# Altium schematic symbol library LM2596S-ADJ_TR.Schlib: 1 symbol
Pins are listed as number, name and electrical type; pins without a type are passive.

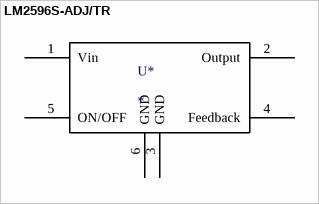
[diagram p0: symbol LM2596S-ADJ/TR]

## LM2596S-ADJ/TR
designator U*
ComponentLink1Description: LCSC - HGSEMI LM2596S-ADJ/TR; ComponentLink1URL: https://lcsc.com/product-detail/Others_HGSEMI-LM2596S-ADJ-TR_C194351.html
footprint TO-263-5
pins: 1 Vin, 2 Output, 3 GND, 4 Feedback, 5 ON/OFF, 6 GND